# Altium integrated library RSX_Miscellaneous.IntLib: 5 symbols
Pins are listed as number, name and electrical type; pins without a type are passive.

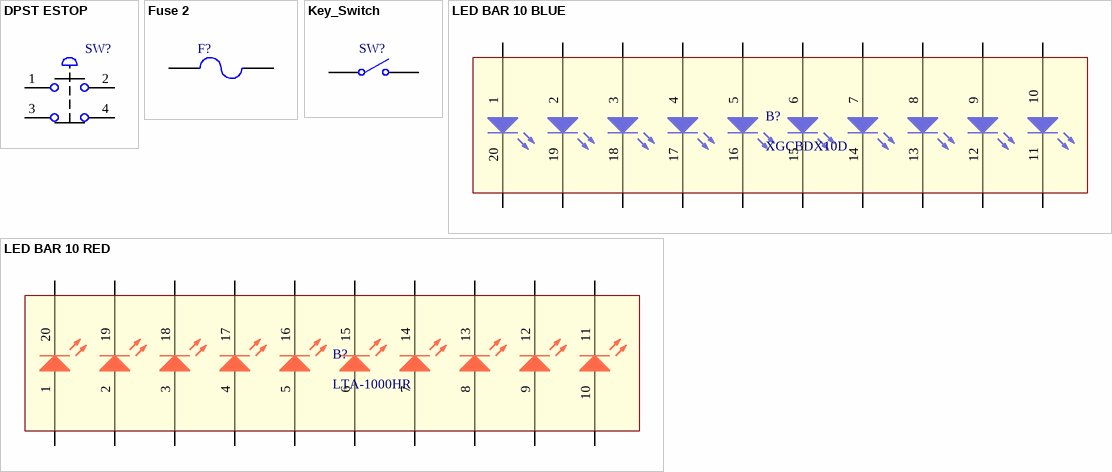
[diagram p0: symbols DPST ESTOP to LED BAR 10 RED]

## DPST ESTOP
designator SW?, comment NO-NC ESD with light  (value not drawn)
footprint MOLEX 0039281043 (Connector Header Through Hole 4 position 0.165" (4.20mm))
pins: 1, 2, 3, 4

## Fuse 2
designator F?
Fuse; Published: 8-Jun-2000; LatestRevisionDate: 17-Jul-2002; LatestRevisionNote: Re-released for DXP Platform.; PackageReference: PIN-W2/E2.8; Publisher: Altium Limited; PackageDescription: Thru-Hole; 2 Leads
footprint 0157010.DR
pins: 1, 2

## Key_Switch
designator SW?
Published: 24-Mar-1999; LatestRevisionDate: 17-Jul-2002; LatestRevisionNote: Re-released for DXP Platform.; PackageReference: SPST-2; Publisher: Altium Limited; PackageDescription: Switch; 2 Leads
footprint MOLEX_0039293026
pins: 1 COMMON, 2 NO

## LED BAR 10 BLUE
designator B?, comment XGCBDX10D
footprint LED BAR 10pos
pins: 1 A, 2 A, 3 A, 4 A, 5 A, 6 A, 7 A, 8 A, 9 A, 10 A, 11 K, 12 K, 13 K, 14 K, 15 K, 16 K, 17 K, 18 K, 19 K, 20 K

## LED BAR 10 RED
designator B?, comment LTA-1000HR
footprint LED BAR 10pos
pins: 1 A, 2 A, 3 A, 4 A, 5 A, 6 A, 7 A, 8 A, 9 A, 10 A, 11 K, 12 K, 13 K, 14 K, 15 K, 16 K, 17 K, 18 K, 19 K, 20 K